# Altium footprint library V40TestAdapter.PcbLib: 1 footprints
Each footprint in its own frame and in the unit in brackets; x right, y up, seen from the top. Pads: shape width x height; smd on the part's side, far side on the other; paste and mask are expansions set on the pad; w line width, h text height; cw(c..) or ccw(c..) is an arc to the next point about the centre after c.
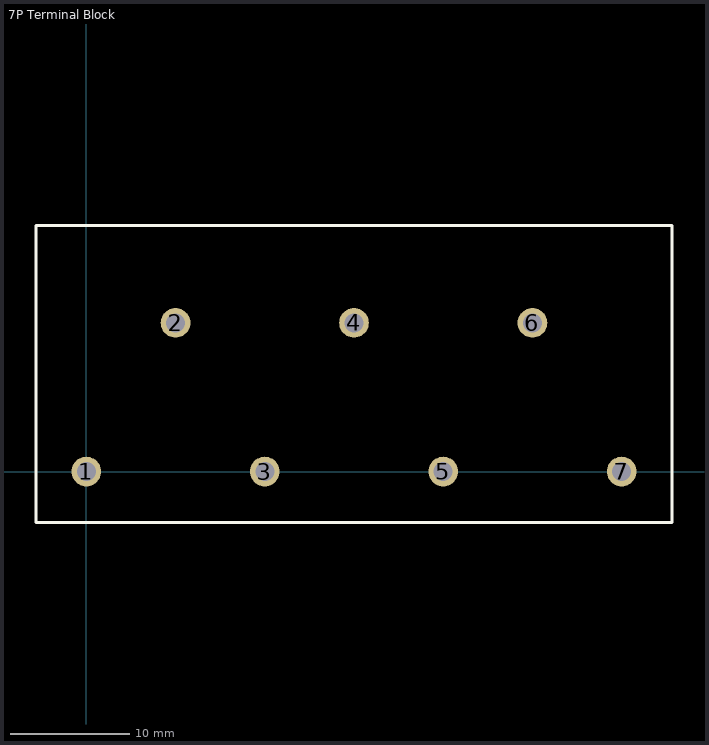
[diagram p0: the footprint, top view; thin cyan lines are the x and y axes]

## 7P Terminal Block [mm] "Phoenix Contact - Push-Lock spring connection"
height 10.16
pads (7):
  round 2.5 hole 1.6: 1(0,0) 2(7.5,12.5) 3(15,0) 4(22.5,12.5) 5(30,0) 6(37.5,12.5) 7(45,0)
Top Overlay:
  lines w0.25: -4.25,-4.3 -4.25,20.7 49.25,20.7 49.25,-4.3 -4.25,-4.3